# EAGLE library part MC34152 (library HyTechDevices-ltc4421 components)
Microchip MC34152 High Speed Dual MOSFET Driver
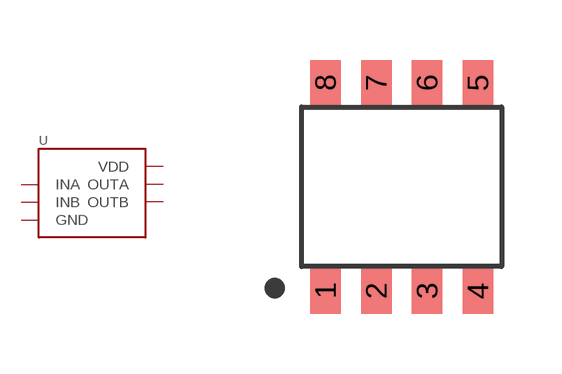
[diagram p10: symbol with the pads of SOIC-08; footprint SOIC-08]

Designator prefix -

## MC34152  [SOIC-08]
2  INA  in
3  GND  pwr
4  INB  in
5  OUTB  out
6  VDD  pwr
7  OUTA  out

## Footprint SOIC-08 (pad centres in mm)
SOIC-8 Datasheet <https://www.analog.com/media/en/package-pcb-resources/package/pkg_pdf/ltc-legacy-soic/05081610_G_SO8.pdf>
smd 0.762 x 1.143: 1 -1.905,-2.603; 2 -0.635,-2.603; 3 0.635,-2.603; 4 1.905,-2.603; 5 1.905,2.603; 6 0.635,2.603; 7 -0.635,2.603; 8 -1.905,2.603